# Altium footprint library launchpad.PCBLIB: 8 footprints
Each footprint in its own frame and in the unit in brackets; x right, y up, seen from the top. Pads: shape width x height; smd on the part's side, far side on the other; paste and mask are expansions set on the pad; w line width, h text height; cw(c..) or ccw(c..) is an arc to the next point about the centre after c.
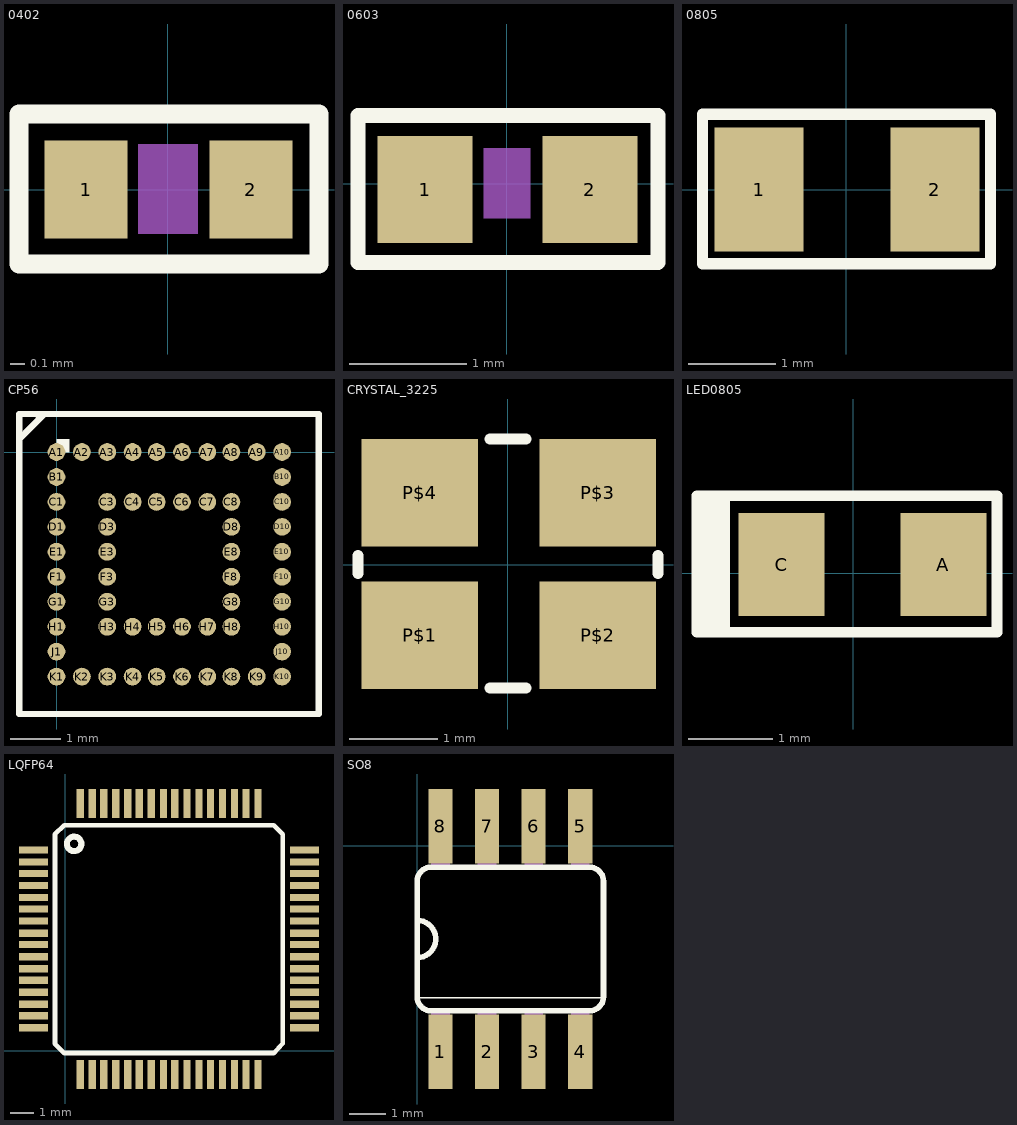
[diagram p0: the footprints below, top view; thin cyan lines are the x and y axes]

## 0402 [mil]
pads (2):
  rect 22x26 smd: 1(-21.65,0) 2(22,0)
Top Overlay:
  lines w5: -39.4,-19.72 -39.4,20 40,20 40,-19.72 -39.4,-19.72
Mechanical 6:
  rectangle: -7.87,-11.81 8,12

## 0603 [mil]
pads (2):
  rect 32x36 smd: 1(-27.56,-1.97) 2(28,-1.97)
Top Overlay:
  lines w5: -50.21,-26.59 -50.21,23 51,23 51,-26.59 -50.21,-26.59
Mechanical 6:
  rectangle: -7.87,-11.81 8,12

## 0805 [mil]
pads (2):
  rect 40x56 smd: 1(-39.37,0) 2(40,0)
Top Overlay:
  lines w5: -64.96,-33.46 -64.96,34 65,34 65,-33.46 -64.96,-33.46

## CP56 [mil]
pads (56):
  rrect100% 14x14 smd: A1(0,0) A2(20,0) A3(40,0) A4(60,0) A5(79,0) A6(99,0) A7(119,0) A8(138,0) A9(158,0) A10(178,0) B1(0,-19.68) B10(178,-19.68) C1(0,-39.37) C3(40,-39.37) C4(60,-39.37) C5(79,-39.37) C6(99,-39.37) C7(119,-39.37) C8(138,-39.37) C10(178,-39.37) D1(0,-59.06) D3(40,-59.06) D8(138,-59.06) D10(178,-59.06) E1(0,-78.74) E3(40,-78.74) E8(138,-78.74) E10(178,-78.74) F1(0,-98.43) F3(40,-98.43) F8(138,-98.43) F10(178,-98.43) G1(0,-118.11) G3(40,-118.11) G8(138,-118.11) G10(178,-118.11) H1(0,-137.8) H3(40,-137.8) H4(60,-137.8) H5(79,-137.8) H6(99,-137.8) H7(119,-137.8) H8(138,-137.8) H10(178,-137.8) J1(0,-157.48) J10(178,-157.48) K1(0,-177.17) K2(20,-177.17) K3(40,-177.17) K4(60,-177.17) K5(79,-177.17) K6(99,-177.17) K7(119,-177.17) K8(138,-177.17) K9(158,-177.17) K10(178,-177.17)
Top Overlay:
  region: 0,0 10,0 10,10 0,10
  lines w5: -29.53,10 -29.53,30 -9.84,30 ; -29.53,10 -29.53,-206.69 207,-206.69 207,30 -9.84,30 ; -29.53,10 -9.84,30

## CRYSTAL_3225 [mil]
pads (4):
  rect 52x48 smd: P$1(-39.37,-31.5) P$2(40,-31.5) P$3(40,32) P$4(-39.37,32)
Top Overlay:
  lines w5: -66.93,-3.94 -66.93,4 ; -7.87,-55.12 8,-55.12 ; -7.87,56 8,56 ; 67,-3.94 67,4

## LED0805 [mil]
pads (2):
  rect 40x48 smd: A(42,4) C(-33.4,4)
Top Overlay:
  lines w5: -67.87,-27.5 -72.8,-27.5 -72.8,36 -67.87,36 ; -67.87,-27.5 -62.93,-27.5 ; -67.87,-27.5 -67.87,36 ; -67.87,36 -62.93,36 ; -62.93,-27.5 -59.99,-27.5 ; -62.93,-27.5 -62.93,36 ; -62.93,36 -59.99,36 ; -59.99,-27.5 67,-27.5 67,36 -59.99,36 ; -59.99,-27.5 -59.99,36

## LQFP64 [mil]
pads (64):
  rect 48x12 smd: 1(-52.41,333) 2(-52.41,313) 3(-52.41,294) 4(-52.41,274) 5(-52.41,254) 6(-52.41,235) 7(-52.41,215) 8(-52.41,195) 9(-52.41,176) 10(-52.41,156) 11(-52.41,136) 12(-52.41,117) 13(-52.41,97) 14(-52.41,77) 15(-52.41,58) 16(-52.41,38) 33(397,38) 34(397,58) 35(397,77) 36(397,97) 37(397,117) 38(397,136) 39(397,156) 40(397,176) 41(397,195) 42(397,215) 43(397,235) 44(397,254) 45(397,274) 46(397,294) 47(397,313) 48(397,333)
  rect 12x48 smd: 17(25,-39.41) 18(45,-39.41) 19(64,-39.41) 20(84,-39.41) 21(104,-39.41) 22(123,-39.41) 23(143,-39.41) 24(163,-39.41) 25(182,-39.41) 26(202,-39.41) 27(222,-39.41) 28(241,-39.41) 29(261,-39.41) 30(281,-39.41) 31(300,-39.41) 32(320,-39.41) 49(320,410) 50(300,410) 51(281,410) 52(261,410) 53(241,410) 54(222,410) 55(202,410) 56(182,410) 57(163,410) 58(143,410) 59(123,410) 60(104,410) 61(84,410) 62(64,410) 63(45,410) 64(25,410)
Top Overlay:
  circle w10: c15,343 r12
  lines w8: -16.98,12 -1.23,-3.98 346,-3.98 361,12 361,359 346,374 -1.23,374 -16.98,359 -16.98,12

## SO8 [mil]
pads (8):
  rect 26x80 smd: 1(25,-221) 2(75,-221) 3(125,-221) 4(175,-221) 5(175,21) 6(125,21) 7(75,21) 8(25,21)
Top Overlay:
  lines w2: 0,-163 200,-163
  lines w6: 0,-120 0,-80 ; 0,-120 0,-162 ccw(c15,-162) 15,-177 185,-177 ccw(c185,-162) 200,-162 200,-38 ccw(c185,-38) 185,-23 15,-23 ccw(c15,-38) 0,-38 0,-80 ; 0,-120 ccw(c0,-100) 0,-80
Mechanical 16:
  rectangle: 165,-23 185,22
  rectangle: 15,-222 35,-177
  rectangle: 65,-222 85,-177
  rectangle: 115,-221 135,-176
  rectangle: 165,-222 185,-177
  rectangle: 115,-23 135,22
  rectangle: 65,-23 85,22
  rectangle: 15,-23 35,22